# Altium integrated library CL10B105KO8NNNC.IntLib: 1 symbol
Pins are listed as number, name and electrical type; pins without a type are passive.

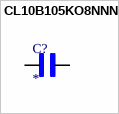
[diagram p0: symbol CL10B105KO8NNNC]

## CL10B105KO8NNNC
designator C?
1 ÂµF Â±10% 16V Ceramic Capacitor X7R 0603 (1608 Metric); MF: Samsung Electro-Mechanics; MP: CL10B105KO8NNNC; SnapEDA_Link: https://www.snapeda.com/parts/CL10B105KO8NNNC/Samsung/view-part/?ref=snap; Package: SMD-2 Samsung; Value: *; Check_prices: https://www.snapeda.com/parts/CL10B105KO8NNNC/Samsung/view-part/?ref=eda
footprint CAPC1608X90N
pins: 1, 2